# EAGLE library part 1-2199299-2 (library SamacSys_Parts)
TE CONNECTIVITY - 1-2199299-2 - IC SOCKET, DIP, 28POS, TH Source: Datasheet <https://www.te.com/commerce/DocumentDelivery/DDEController?Action=showdoc&DocId=Customer Drawing2199299ApdfEnglishENG_CD_2199299_A_baseFilename.pdf1-2199299-2>
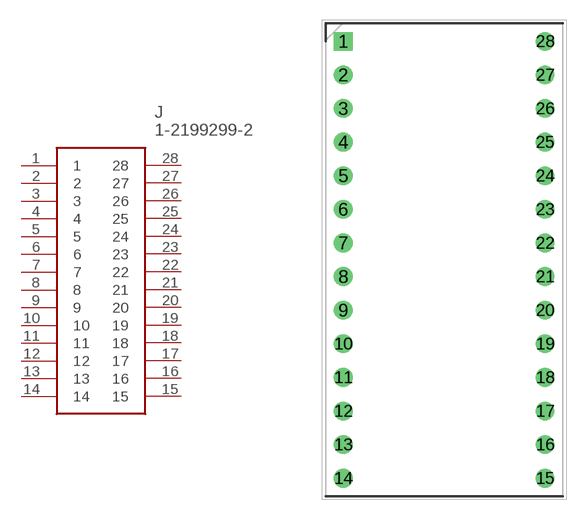
[diagram p50: symbol with the pads of DIPS1524W70P254L3556H530Q28N; footprint DIPS1524W70P254L3556H530Q28N]

Designator prefix J

## 1-2199299-2 (DESCRIPTION: TE CONNECTIVITY - 1-2199299-2 - IC SOCKET, DIP, 28POS, TH; HEIGHT: 5.3mm; MANUFACTURER_NAME: TE Connectivity; MANUFACTURER_PART_NUMBER: 1-2199299-2; MOUSER_PART_NUMBER: 571-1-2199299-2; MOUSER_PRICE-STOCK: https://www.mouser.co.uk/ProductDetail/TE-Connectivity/1-2199299-2?qs=fK8dlpkaUMsXyJ%2FBqcw4Fg%3D%3D)  [DIPS1524W70P254L3556H530Q28N]
1  1
2  2
3  3
4  4
5  5
6  6
7  7
8  8
9  9
10  10
11  11
12  12
13  13
14  14
15  15
16  16
17  17
18  18
19  19
20  20
21  21
22  22
23  23
24  24
25  25
26  26
27  27
28  28

## Footprint DIPS1524W70P254L3556H530Q28N (pad centres in mm)
1-2199299-2
drill 0.9 pad 1.35 square: 1 0,0
drill 0.9 pad 1.35: 2 0,-2.54; 3 0,-5.08; 4 0,-7.62; 5 0,-10.16; 6 0,-12.7; 7 0,-15.24; 8 0,-17.78; 9 0,-20.32; 10 0,-22.86; 11 0,-25.4; 12 0,-27.94; 13 0,-30.48; 14 0,-33.02; 15 15.24,-33.02; 16 15.24,-30.48; 17 15.24,-27.94; 18 15.24,-25.4; 19 15.24,-22.86; 20 15.24,-20.32; 21 15.24,-17.78; 22 15.24,-15.24; 23 15.24,-12.7; 24 15.24,-10.16; 25 15.24,-7.62; 26 15.24,-5.08; 27 15.24,-2.54; 28 15.24,0